# EAGLE library part RELAY_DPST_G6B (library wheat)
RELAY, DPST OMRON G6B-2114
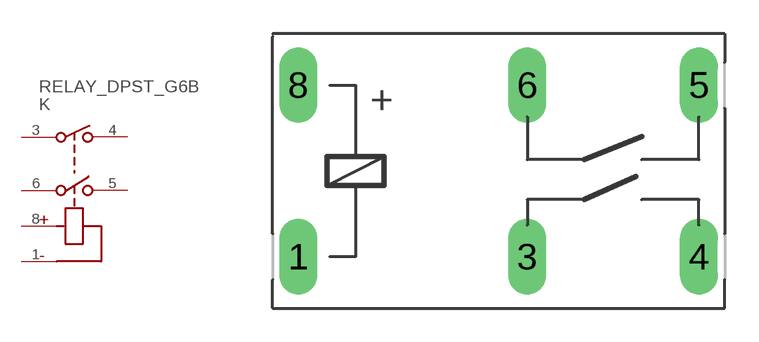
[diagram p81: symbol with the pads of G6B_DPST; footprint G6B_DPST]

Designator prefix K

## RELAY_DPST_G6B  [G6B_DPST]
1  C2  pas
3  X1  pas
4  Y1  pas
5  Y2  pas
6  X2  pas
8  C1  pas

## Footprint G6B_DPST (pad centres in mm)
RELAY OMRON G6B-2214
drill 1.118 long: 1 -7.62,-3.81; 3 2.54,-3.81; 4 10.16,-3.81; 5 10.16,3.81; 6 2.54,3.81; 8 -7.62,3.81